# EAGLE library part DB9 (library ads)
DB9 Connector
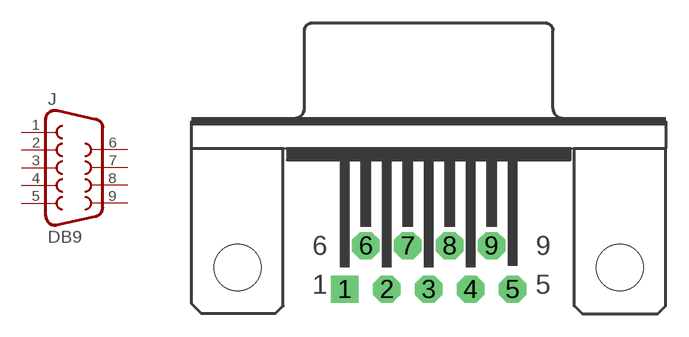
[diagram p6: symbol with the pads of 7457814; footprint 7457814]

Designator prefix J

## DB9  [7457814]
1  1  pas
2  2  pas
3  3  pas
4  4  pas
5  5  pas
6  6  pas
7  7  pas
8  8  pas
9  9  pas

## Footprint 7457814 (pad centres in mm)
FEMALE DB9 Connector AMP 7-457814 Norcomp 182-x09-212
drill 1.092 pad 1.778 square: 1 -5.486,-7.925
drill 1.092 pad 1.778 octagon: 2 -2.743,-7.925; 3 0,-7.925; 4 2.743,-7.925; 5 5.486,-7.925; 6 -4.115,-5.08; 7 -1.372,-5.08; 8 1.372,-5.08; 9 4.115,-5.08
hole 3.048 at -12.497,-6.502
hole 3.048 at 12.497,-6.502